# Altium footprint library Rezonatot.PcbLib: 2 footprints
Each footprint in its own frame and in the unit in brackets; x right, y up, seen from the top. Pads: shape width x height; smd on the part's side, far side on the other; paste and mask are expansions set on the pad; w line width, h text height; cw(c..) or ccw(c..) is an arc to the next point about the centre after c.
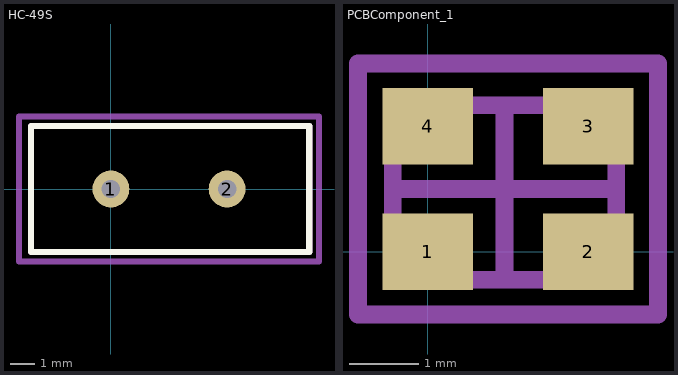
[diagram p0: the footprints below, top view; thin cyan lines are the x and y axes]

## HC-49S [mil]
pads (2):
  round 60 hole 30: 1(0,0) 2(188.98,0)
Top Overlay:
  lines w10: -129.92,-102.36 322.83,-102.36 322.83,102.36 -129.92,102.36 -129.92,-102.36
Mechanical 13:
  lines w10: -129.92,-102.36 322.83,-102.36 322.83,102.36 -129.92,102.36 -129.92,51.18 -129.92,-51.18 -129.92,-102.36
Mechanical 15:
  lines w10: -149.61,-118.11 338.58,-118.11 338.58,118.11 -149.61,118.11 -149.61,-118.11
3D body: height 531.5, standoff 0, extent -129.92,-102.36 322.83,102.36

## PCBComponent_1 [mm]
pads (4):
  rect 1.3x1.1 smd: 1(0,0) 2(2.3,0) 3(2.3,1.8) 4(0,1.8)
Mechanical 13:
  lines w0.254: -0.5,0 -0.1,-0.4 2.7,-0.4 2.7,2.1 -0.5,2.1 -0.5,0
Mechanical 15:
  lines w0.254: -0.5,0.9 2.7,0.9 ; 1.1,-0.4 1.1,2.1 ; -1,-0.9 3.3,-0.9 3.3,2.7 -1,2.7 -1,-0.9
3D body: height 0.8, standoff 0, extent -0.5,-0.4 2.7,2.1